# Altium footprint library DF11-24DP-2DSA.PcbLib: 1 footprints
Each footprint in its own frame and in the unit in brackets; x right, y up, seen from the top. Pads: shape width x height; smd on the part's side, far side on the other; paste and mask are expansions set on the pad; w line width, h text height; cw(c..) or ccw(c..) is an arc to the next point about the centre after c.
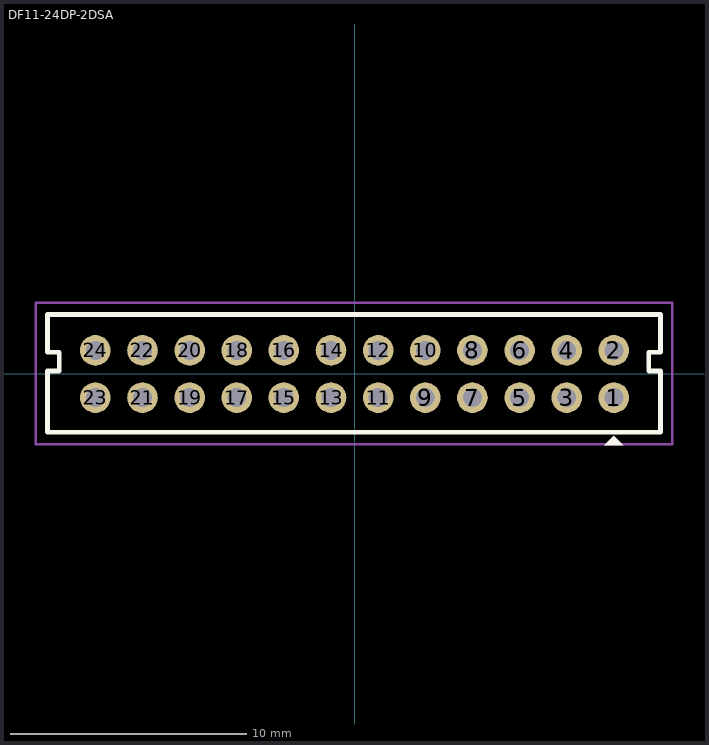
[diagram p0: the footprint, top view; thin cyan lines are the x and y axes]

## DF11-24DP-2DSA [mm]
pads (24):
  round 1.3 hole 0.8: 1(11,-1) 2(11,1) 3(9,-1) 4(9,1) 5(7,-1) 6(7,1) 7(5,-1) 8(5,1) 9(3,-1) 10(3,1) 11(1,-1) 12(1,1) 13(-1,-1) 14(-1,1) 15(-3,-1) 16(-3,1) 17(-5,-1) 18(-5,1) 19(-7,-1) 20(-7,1) 21(-9,-1) 22(-9,1) 23(-11,-1) 24(-11,1)
Top Overlay:
  region: 11.4,-3.025 10.6,-3.025 11,-2.625
  lines w0.2: -13.025,-2.475 12.975,-2.475 12.975,0.125 12.475,0.125 12.475,0.925 12.975,0.925 12.975,2.525 -13.025,2.525 -13.025,0.925 -12.525,0.925 -12.525,0.125 -13.025,0.125 -13.025,-2.475
Top Courtyard:
  lines w0.1: -13.525,-2.975 13.475,-2.975 13.475,3.025 -13.525,3.025 -13.525,-2.475 -13.525,-2.975
3D body "DF11-24DP-2DSA.stp": height 6.7, standoff -2.9, extent -13.025,-2.475 12.975,2.525